# EAGLE library part 0826-1X1T-43-F (library Modular Jacks)
CONN MAGJACK 1PORT 1000 BASE-T Manufacturer's datasheet <https://belfuse.com/resources/drawings/magneticsolutions/dr-mag-0826-1x1t-43-f.pdf>
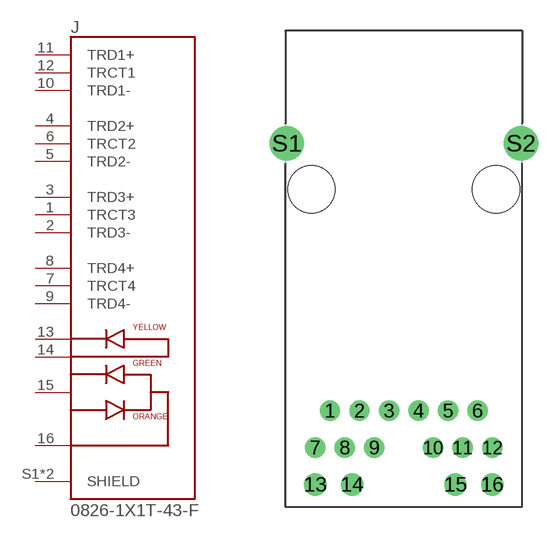
[diagram p7: symbol with the pads of 0826-1X1T-43-F; footprint 0826-1X1T-43-F]

Designator prefix J

## 0826-1X1T-43-F (CREATED_BY: PCBLayout.com; DIGIKEY_PN: 507-1432-ND; MANUFACTURER: Bel Fuse Inc.; MPN: 0826-1X1T-43-F)  [0826-1X1T-43-F]
1  TRCT3  pas
2  TRD3-  pas
3  TRD3+  pas
4  TRD2+  pas
5  TRD2-  pas
6  TRCT2  pas
7  TRCT4  pas
8  TRD4+  pas
9  TRD4-  pas
10  TRD1-  pas
11  TRD1+  pas
12  TRCT1  pas
13  13  pas
14  14  pas
15  15  pas
16  16  pas
S1  SHIELD  pwr
S2  SHIELD  pwr

## Footprint 0826-1X1T-43-F (pad centres in mm)
drill 0.89: 1 -5.08,-15.24; 2 -3.05,-15.24; 3 -1.02,-15.24; 4 1.01,-15.24; 5 3.04,-15.24; 6 5.07,-15.24; 7 -6.1,-17.78; 8 -4.07,-17.78; 9 -2.04,-17.78; 10 2.02,-17.78; 11 4.05,-17.78; 12 6.095,-17.78
drill 1.02: 13 -6.095,-20.32; 14 -3.555,-20.32; 15 3.555,-20.32; 16 6.095,-20.32
drill 1.57: S1 -8.065,3.17; S2 8.065,3.17
hole 3.25 at -6.35,0
hole 3.25 at 6.35,0